# Altium integrated library TXS0102DCTR.IntLib: 1 symbol
Pins are listed as number, name and electrical type; pins without a type are passive.

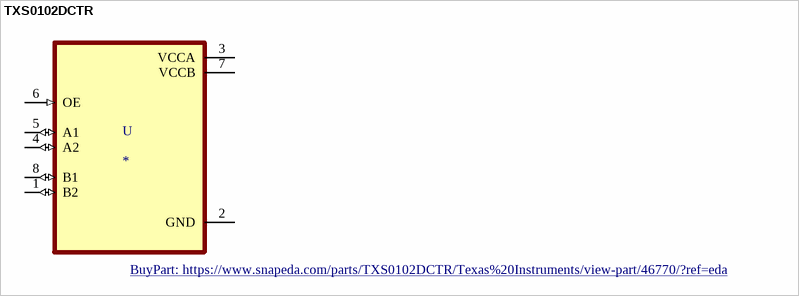
[diagram p0: symbol TXS0102DCTR]

## TXS0102DCTR
designator U
2-Bit Bidirectional Voltage-Level Shifter for Open-Drain and Push-Pull Application 8-SM8 -40 to 85; MF: Texas Instruments; MP: TXS0102DCTR; Value: *; Price: None; Package: SSOP-8 Texas Instruments; SnapEDA_Link: https://www.snapeda.com/parts/TXS0102DCTR/Texas%20Instruments/view-part/46770/?ref=snap; Availability: Unavailable; Texas_Instruments-Purchase-URL: https://snapeda.com/shop?store=Texas+Instruments&id=46770; BuyPart: https://www.snapeda.com/parts/TXS0102DCTR/Texas%20Instruments/view-part/46770/?ref=eda
footprint SOP65P400X130-8N
pins: 1 B2 (io), 2 GND (power), 3 VCCA (power), 4 A2 (io), 5 A1 (io), 6 OE (in), 7 VCCB (power), 8 B1 (io)